# Altium footprint library ICs.PcbLib: 72 footprints (part 4 of 5)
Each footprint in its own frame and in the unit in brackets; x right, y up, seen from the top. Pads: shape width x height; smd on the part's side, far side on the other; paste and mask are expansions set on the pad; w line width, h text height; cw(c..) or ccw(c..) is an arc to the next point about the centre after c.
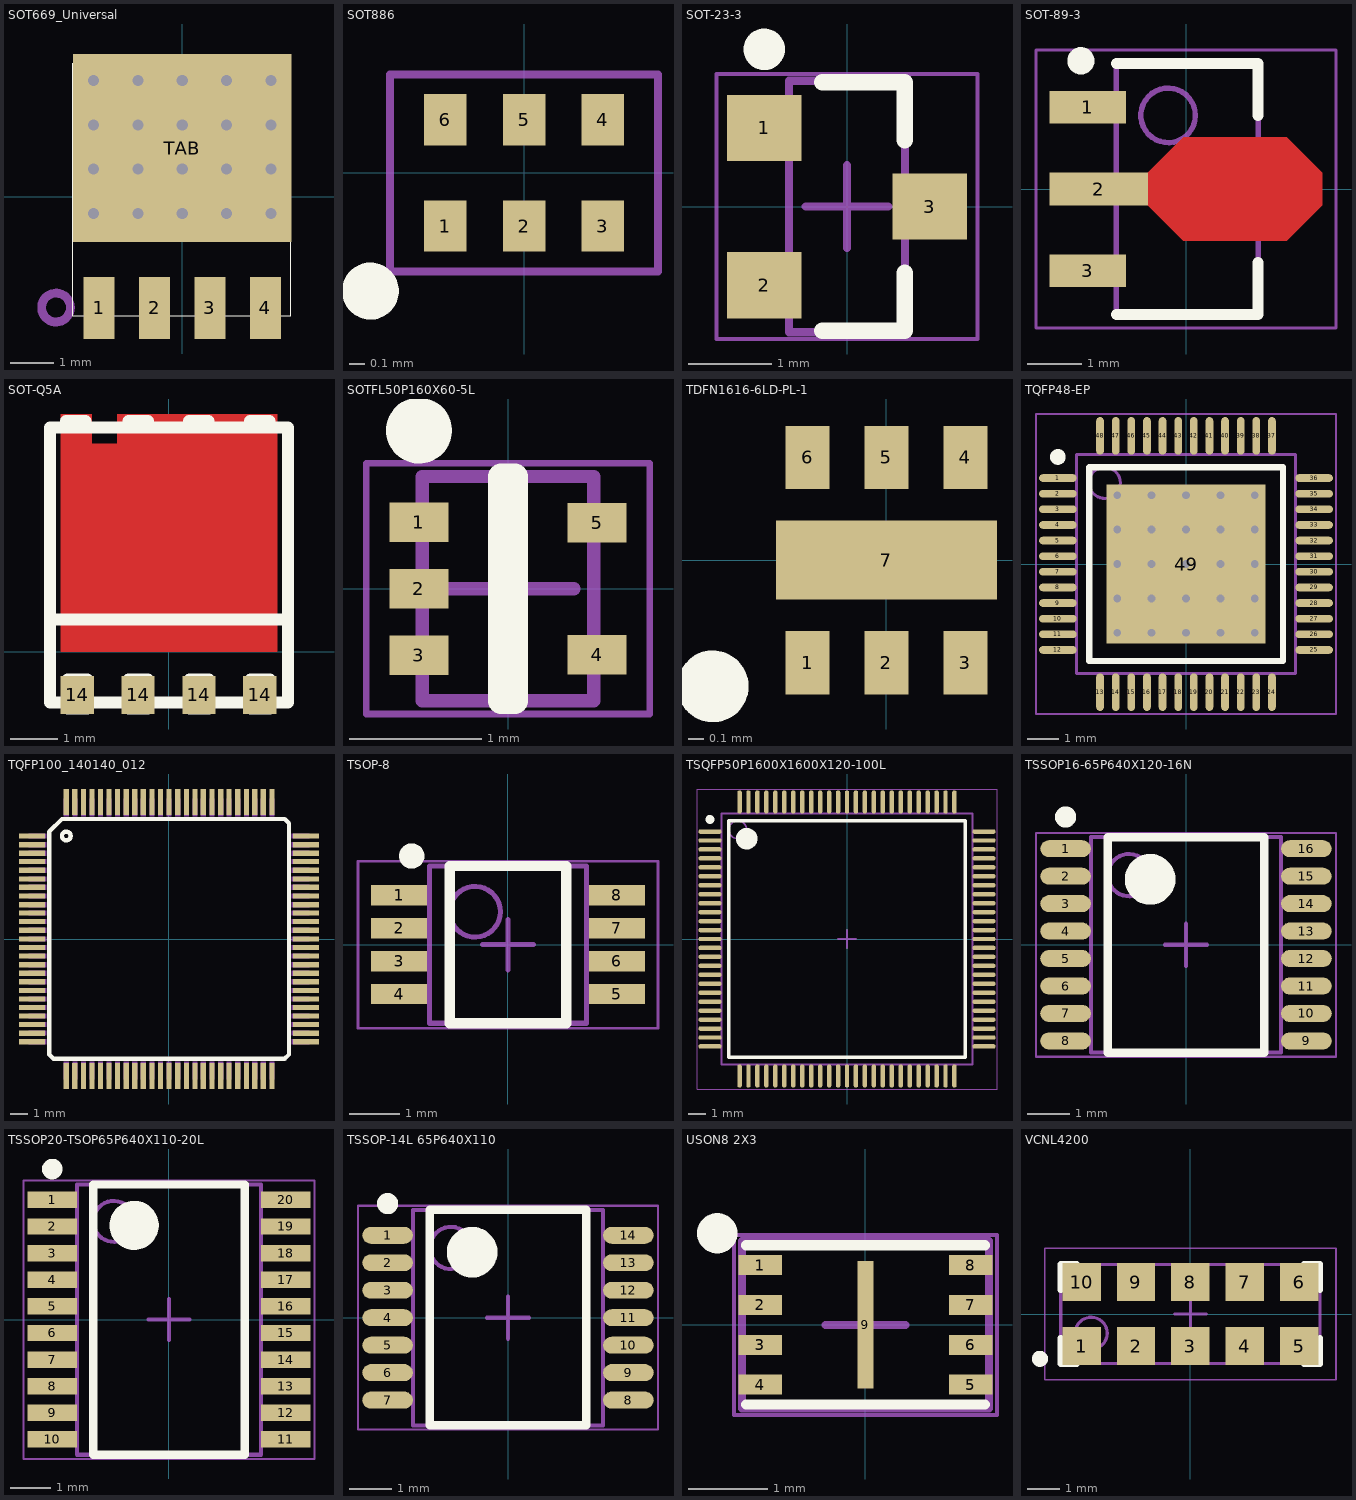
[diagram p3: the footprints below, top view; thin cyan lines are the x and y axes]

## SOT669_Universal [mil]
pads (5):
  rect 28x56 smd: 1(-75,-100.41) 2(-25,-100.41) 3(25,-100.41) 4(75,-100.41)
  rect 197x170 smd paste-102.36 mask-236.22: TAB(0,43.98)
via 0,64.98 diameter 22 hole 10
via 0,104.98 diameter 22 hole 10
via 0,24.98 diameter 22 hole 10
via 0,-15.02 diameter 22 hole 10
via -40,-15.02 diameter 22 hole 10
via -80,-15.02 diameter 22 hole 10
via -80,24.98 diameter 22 hole 10
via -40,24.98 diameter 22 hole 10
via -40,64.98 diameter 22 hole 10
via -80,64.98 diameter 22 hole 10
via -80,104.98 diameter 22 hole 10
via -40,104.98 diameter 22 hole 10
via 40,104.98 diameter 22 hole 10
via 80,104.98 diameter 22 hole 10
via 80,64.98 diameter 22 hole 10
via 40,64.98 diameter 22 hole 10
via 40,24.98 diameter 22 hole 10
via 80,24.98 diameter 22 hole 10
via 80,-15.02 diameter 22 hole 10
via 40,-15.02 diameter 22 hole 10
Top Overlay:
  lines w0.39: -98.82,-18.43 -78.74,-18.43 -78.74,101.83 -85.43,101.83 -85.43,120.55 -69.22,120.55 -69.22,101.83 -34.25,101.83 -34.25,120.55 -18.04,120.55 -18.04,101.83 16.14,101.83 16.14,120.55 32.36,120.55 32.36,101.83 66.54,101.83 66.54,120.55 82.75,120.55 82.75,101.65 78.74,101.65 78.74,-38.5 ; -98.74,-38.32 98.11,-38.32 ; -85.56,120.73 -85.56,125.85 -69.41,125.85 -69.41,120.73 ; -33.98,120.73 -33.98,125.85 -17.84,125.85 -17.84,120.73 ; 16.41,120.73 16.41,125.85 32.56,125.85 32.56,120.73 ; 66.81,120.73 66.81,125.85 82.95,125.85 82.95,120.73 ; -98.74,-107.22 -98.74,120.73 98.11,120.73 98.11,-107.22 -98.74,-107.22 ; -84.18,-111.94 -68.04,-111.94 -68.04,-87.93 -84.18,-87.93 -84.18,-111.94 ; -33.78,-111.94 -33.78,-87.93 -17.64,-87.93 -17.64,-111.94 -33.78,-111.94 ; 16.61,-111.94 16.61,-87.93 32.75,-87.93 32.75,-111.94 16.61,-111.94 ; 67,-111.94 67,-87.93 83.15,-87.93 83.15,-111.94 67,-111.94
Top Paste:
  region: 17.72,-30.24 -17.72,-30.24 -17.72,-6.61 17.72,-6.61
  region: -27.56,-30.24 -62.99,-30.24 -62.99,-6.61 -27.56,-6.61
  region: 62.99,-30.24 27.56,-30.24 27.56,-6.61 62.99,-6.61
  region: 17.72,0.28 -17.72,0.28 -17.72,23.9 17.72,23.9
  region: -27.56,0.28 -62.99,0.28 -62.99,23.9 -27.56,23.9
  region: 62.99,0.28 27.56,0.28 27.56,23.9 62.99,23.9
  region: 17.72,31.77 -17.72,31.77 -17.72,55.39 17.72,55.39
  region: -27.56,31.77 -62.99,31.77 -62.99,55.39 -27.56,55.39
  region: 62.99,31.77 27.56,31.77 27.56,55.39 62.99,55.39
  region: 62.99,62.28 27.56,62.28 27.56,85.91 62.99,85.91
  region: -27.56,62.28 -62.99,62.28 -62.99,85.91 -27.56,85.91
  region: 17.72,62.28 -17.72,62.28 -17.72,85.91 17.72,85.91
  region: 62.99,91.81 62.99,127.24 86.61,127.24 86.61,91.81
  region: 11.81,91.81 11.81,127.24 35.43,127.24 35.43,91.81
  region: -38.39,91.81 -38.39,127.24 -14.76,127.24 -14.76,91.81
  region: -89.57,91.81 -89.57,127.24 -65.94,127.24 -65.94,91.81
Top Solder:
  region: -82.68,-43.03 -82.68,90.83 -92.52,90.83 -92.52,131.18 92.52,131.18 92.52,90.83 82.68,90.83 82.68,-43.03
  region: -82.68,-31.22
Mechanical 8:
  circle w8: c-113.98,-100.02 r13
3D body: height 9.84, standoff 3.54, extent -78.74,-38.5 78.74,101.65
3D body: height 10, standoff 0, extent -78.74,-38.11 -78.74,-38.11
3D body: height 9.84, standoff 3.54, extent -85.36,101.83 -69.22,125.85
3D body: height 9.84, standoff 3.54, extent -34.18,101.83 -18.04,125.85
3D body: height 9.84, standoff 3.54, extent 16.22,101.83 32.36,125.85
3D body: height 9.84, standoff 3.54, extent 66.61,101.83 82.75,125.85
3D body: height 9.84, standoff 3.54, extent 67,-111.94 83.15,-87.93
3D body: height 9.84, standoff 3.54, extent 16.61,-111.94 32.75,-87.93
3D body: height 9.84, standoff 3.54, extent -33.78,-111.94 -17.64,-87.93
3D body: height 39.37, standoff 3.94, extent -99.14,-107.22 97.71,120.73
3D body: height 10, standoff 3.94, extent -62.52,-112.73 -62.52,-112.73
3D body: height 9.84, standoff 3.54, extent -84.18,-111.94 -68.04,-87.93

## SOT886 [mm]
pads (6):
  rect 0.27x0.325 smd paste-5: 1(-0.5,-0.337) 2(0,-0.337) 3(0.5,-0.337) 4(0.5,0.337) 5(0,0.337) 6(-0.5,0.337)
Top Overlay:
  circle w0.203: c-0.975,-0.75 r0.079
Top Paste:
  rectangle: -0.63,-0.49 -0.37,-0.185
  rectangle: -0.13,-0.49 0.13,-0.185
  rectangle: 0.37,-0.49 0.63,-0.185
  rectangle: 0.37,0.185 0.63,0.489
  rectangle: -0.13,0.185 0.13,0.49
  rectangle: -0.63,0.184 -0.37,0.489
Mechanical 15:
  lines w0.05: -0.85,-0.625 0.85,-0.625 0.85,0.625 -0.85,0.625 -0.85,-0.625
3D body: height 0.54, standoff 0.04, extent -0.75,-0.525 0.75,0.525

## SOT-23-3 [mm] "SOT23, 3-Leads, Body 2.92x2.37mm, Pitch 0.95mm, IPC High Density"
height 1.11
pads (3):
  rect 0.9x0.8 smd: 1(-1,0.95) 2(-1,-0.95) 3(1,0)
Top Overlay:
  circle w0.25: c-1,1.9 r0.125
  lines w0.2: -0.3,-1.5 0.7,-1.5 0.7,-0.8 ; -0.3,1.5 0.7,1.5 0.7,0.8
Mechanical 13:
  lines w0.1: -0.7,-1.52 -0.7,1.52 0.7,1.52 0.7,-1.52 -0.7,-1.52
Mechanical 15:
  lines w0.05: -1.575,-1.6 -1.575,1.6 1.575,1.6 1.575,-1.6 -1.575,-1.6
  lines w0.1: -0.5,0 0.5,0 ; 0,-0.5 0,0.5
3D body "SOT-23-3.step": height 1.11, standoff 0, extent -1.32,-1.52 1.32,1.52

## SOT-89-3 [mm]
height 1.6
pads (3):
  rect 1.4x0.6 smd: 1(-1.8,1.5) 3(-1.8,-1.5)
  rect 1.8x0.6 smd: 2(-1.6,0)
Top Layer:
  region: -0.705,0.295 -0.05,0.95 1.85,0.95 2.5,0.3 2.5,-0.3 1.85,-0.95 -0.05,-0.95 -0.705,-0.295
Top Overlay:
  circle w0.25: c-1.927,2.35 r0.125
  lines w0.2: -1.278,-2.3 1.322,-2.3 1.322,-1.35 ; -1.278,2.3 1.322,2.3 1.322,1.35
Top Paste:
  region: -0.406,0.533 -0.051,0.889 1.854,0.889 2.438,0.305 2.438,-0.305 1.854,-0.889 -0.051,-0.889 -0.406,-0.533
Mechanical 13:
  circle w0.1: c-0.327,1.35 r0.5
  lines w0.1: -1.278,-2.3 1.322,-2.3 1.322,2.3 -1.278,2.3 -1.278,-2.3
Mechanical 15:
  lines w0.05: -2.75,-2.55 2.75,-2.55 2.75,2.55 -2.75,2.55 -2.75,-2.55
  lines w0.1: -0.477,0 0.523,0 ; 0.022,-0.5 0.022,0.5
3D body "SOT-89-3.step": height 1.6, standoff 0, extent -2.2,-2.3 1.85,2.3

## SOT-Q5A [mm]
pads (4):
  rect 0.7x0.8 smd: 14(-1.92,-0.91) 14(-0.64,-0.91) 14(0.64,-0.91) 14(1.92,-0.91)
Top Layer:
  region: -2.27,0 -2.27,5 -1.62,5 -1.62,4.37 -1.08,4.37 -1.08,5 2.29,5 2.29,0
Top Overlay:
  lines w0.254: -2.49,0.68 2.51,0.68 ; -2.155,4.72 -2.155,4.85 -1.745,4.85 -1.745,4.72 ; -0.845,4.72 -0.845,4.85 -0.435,4.85 -0.435,4.72 ; 0.435,4.72 0.435,4.85 0.845,4.85 0.845,4.72 ; 1.715,4.72 1.715,4.85 2.125,4.85 2.125,4.72 ; -2.49,-1.07 2.51,-1.07 2.51,4.72 -2.49,4.72 -2.49,-1.07 ; -2.12,-1.19 -2.12,-0.58 -1.71,-0.58 -1.71,-1.19 -2.12,-1.19 ; -0.84,-1.19 -0.43,-1.19 -0.43,-0.58 -0.84,-0.58 -0.84,-1.19 ; 0.44,-1.19 0.85,-1.19 0.85,-0.58 0.44,-0.58 0.44,-1.19 ; 1.72,-1.19 2.13,-1.19 2.13,-0.58 1.72,-0.58 1.72,-1.19

## SOTFL50P160X60-5L [mm] "SOTFL, 5-Leads, Body 1.60x1.60mm, Pitch 0.50mm, IPC High Density"
height 0.6
pads (5):
  rect 0.45x0.3 smd: 1(-0.675,0.503) 2(-0.675,0) 3(-0.675,-0.503) 4(0.675,-0.5) 5(0.675,0.5)
Top Overlay:
  circle w0.25: c-0.675,1.2 r0.125
  lines w0.2: -0.05,-0.85 0.05,-0.85 0.05,0.85 -0.05,0.85 -0.05,-0.85
Mechanical 13:
  lines w0.1: -0.65,-0.85 -0.65,0.85 0.65,0.85 0.65,-0.85 -0.65,-0.85
Mechanical 15:
  lines w0.05: -1.075,-0.95 -1.075,0.95 1.075,0.95 1.075,-0.95 -1.075,-0.95
  lines w0.1: -0.5,0 0.5,0 ; 0,-0.5 0,0.5
3D body "SOTFL50P160X60-5L.step": height 0.6, standoff 0, extent -0.8,-0.848 0.8,0.848

## TDFN1616-6LD-PL-1 [mm] "1.6mmx1.6mm"
pads (7):
  rect 0.28x0.4 smd mask+0.13: 1(-0.5,-0.65) 2(0,-0.65) 3(0.5,-0.65) 4(0.5,0.65) 5(0,0.65) 6(-0.5,0.65)
  rect 1.4x0.5 smd paste-1 mask+0.07: 7(0,0)
Top Overlay:
  circle w0.254: c-1.1,-0.8 r0.1
Top Paste:
  region: 0.65,0.15 0.051,0.15 0.051,-0.15 0.65,-0.15
  rectangle: -0.65,-0.15 -0.051,0.15
3D body: height 0.55, standoff 0.05, extent -0.799,-0.799 0.799,0.799

## TQFP48-EP [mm] "TSQFP, 48-Leads, Body 7.00x7.00mm, Pitch 0.50mm, Thermal Pad 5.10x5.10mm, IPC High Density"
height 1.2
pads (49):
  oval 1.2x0.25 smd: 1(-4.1,2.75) 2(-4.1,2.25) 3(-4.1,1.75) 4(-4.1,1.25) 5(-4.1,0.75) 6(-4.1,0.25) 7(-4.1,-0.25) 8(-4.1,-0.75) 9(-4.1,-1.25) 10(-4.1,-1.75) 11(-4.1,-2.25) 12(-4.1,-2.75) 25(4.1,-2.75) 26(4.1,-2.25) 27(4.1,-1.75) 28(4.1,-1.25) 29(4.1,-0.75) 30(4.1,-0.25) 31(4.1,0.25) 32(4.1,0.75) 33(4.1,1.25) 34(4.1,1.75) 35(4.1,2.25) 36(4.1,2.75)
  oval 0.25x1.2 smd: 13(-2.75,-4.1) 14(-2.25,-4.1) 15(-1.75,-4.1) 16(-1.25,-4.1) 17(-0.75,-4.1) 18(-0.25,-4.1) 19(0.25,-4.1) 20(0.75,-4.1) 21(1.25,-4.1) 22(1.75,-4.1) 23(2.25,-4.1) 24(2.75,-4.1) 37(2.75,4.1) 38(2.25,4.1) 39(1.75,4.1) 40(1.25,4.1) 41(0.75,4.1) 42(0.25,4.1) 43(-0.25,4.1) 44(-0.75,4.1) 45(-1.25,4.1) 46(-1.75,4.1) 47(-2.25,4.1) 48(-2.75,4.1)
  rect 5.1x5.1 smd: 49(0,0)
via -2.2,2.2 diameter 0.559 hole 0.254
via -1.1,2.2 diameter 0.559 hole 0.254
via 0,2.2 diameter 0.559 hole 0.254
via 1.1,2.2 diameter 0.559 hole 0.254
via 2.2,2.2 diameter 0.559 hole 0.254
via -2.2,1.1 diameter 0.559 hole 0.254
via -1.1,1.1 diameter 0.559 hole 0.254
via 0,1.1 diameter 0.559 hole 0.254
via 1.1,1.1 diameter 0.559 hole 0.254
via 2.2,1.1 diameter 0.559 hole 0.254
via -2.2,0 diameter 0.559 hole 0.254
via -1.1,0 diameter 0.559 hole 0.254
via 0,0 diameter 0.559 hole 0.254
via 1.1,0 diameter 0.559 hole 0.254
via 2.2,0 diameter 0.559 hole 0.254
via -2.2,-1.1 diameter 0.559 hole 0.254
via -1.1,-1.1 diameter 0.559 hole 0.254
via 0,-1.1 diameter 0.559 hole 0.254
via 1.1,-1.1 diameter 0.559 hole 0.254
via 2.2,-1.1 diameter 0.559 hole 0.254
via -2.2,-2.2 diameter 0.559 hole 0.254
via -1.1,-2.2 diameter 0.559 hole 0.254
via 0,-2.2 diameter 0.559 hole 0.254
via 1.1,-2.2 diameter 0.559 hole 0.254
via 2.2,-2.2 diameter 0.559 hole 0.254
Top Overlay:
  circle w0.25: c-4.1,3.425 r0.125
  lines w0.2: -3.1,-3.1 -3.1,3.1 3.1,3.1 3.1,-3.1 -3.1,-3.1
Mechanical 13:
  circle w0.1: c-2.6,2.6 r0.5
  lines w0.1: -3.5,-3.5 -3.5,3.5 3.5,3.5 3.5,-3.5 -3.5,-3.5
Mechanical 15:
  lines w0.05: -4.8,-4.8 -4.8,4.8 4.8,4.8 4.8,-4.8 -4.8,-4.8
  lines w0.1: -0.5,0 0.5,0 ; 0,-0.5 0,0.5
3D body: height 1.2, standoff 0.15, extent -3.5,-3.5 3.5,3.5

## TQFP100_140140_012 [mil]
pads (100):
  rect 60x12 smd mask+4: 1(-314.96,237) 2(-314.96,217) 3(-314.96,197) 4(-314.96,178) 5(-314.96,158) 6(-314.96,138) 7(-314.96,119) 8(-314.96,99) 9(-314.96,79) 10(-314.96,60) 11(-314.96,40) 12(-314.96,20) 13(-314.96,0) 14(-314.96,-19.68) 15(-314.96,-39.37) 16(-314.96,-59.06) 17(-314.96,-78.74) 18(-314.96,-98.43) 19(-314.96,-118.11) 20(-314.96,-137.8) 21(-314.96,-157.48) 22(-314.96,-177.17) 23(-314.96,-196.85) 24(-314.96,-216.54) 25(-314.96,-236.22) 51(315,-236.22) 52(315,-216.54) 53(315,-196.85) 54(315,-177.17) 55(315,-157.48) 56(315,-137.8) 57(315,-118.11) 58(315,-98.43) 59(315,-78.74) 60(315,-59.06) 61(315,-39.37) 62(315,-19.68) 63(315,0) 64(315,20) 65(315,40) 66(315,60) 67(315,79) 68(315,99) 69(315,119) 70(315,138) 71(315,158) 72(315,178) 73(315,197) 74(315,217) 75(315,237)
  rect 12x60 smd mask+4: 26(-236.22,-314.96) 27(-216.54,-314.96) 28(-196.85,-314.96) 29(-177.17,-314.96) 30(-157.48,-314.96) 31(-137.8,-314.96) 32(-118.11,-314.96) 33(-98.43,-314.96) 34(-78.74,-314.96) 35(-59.06,-314.96) 36(-39.37,-314.96) 37(-19.69,-314.96) 38(0,-314.96) 39(20,-314.96) 40(40,-314.96) 41(60,-314.96) 42(79,-314.96) 43(99,-314.96) 44(119,-314.96) 45(138,-314.96) 46(158,-314.96) 47(178,-314.96) 48(197,-314.96) 49(217,-314.96) 50(237,-314.96) 76(237,315) 77(217,315) 78(197,315) 79(178,315) 80(158,315) 81(138,315) 82(119,315) 83(99,315) 84(79,315) 85(60,315) 86(40,315) 87(20,315) 88(0,315) 89(-19.69,315) 90(-39.37,315) 91(-59.06,315) 92(-78.74,315) 93(-98.43,315) 94(-118.11,315) 95(-137.8,315) 96(-157.48,315) 97(-177.17,315) 98(-196.85,315) 99(-216.54,315) 100(-236.22,315)
Top Overlay:
  circle w10: c-236.22,237 r10
  lines w10: -275.59,-265.75 -275.59,247 -246.06,276 266,276 276,266 276,-265.75 266,-275.59 -265.75,-275.59 -275.59,-265.75
Mechanical 8:
  rectangle: -242.13,282 -230.31,323
  rectangle: -222.44,282 -210.63,323
  rectangle: -202.76,282 -190.94,323
  rectangle: -183.07,282.02 -171.26,323.02
  rectangle: -163.39,282 -151.57,323
  rectangle: -143.68,282 -131.87,323
  rectangle: -124.02,282 -112.2,323
  rectangle: -104.33,282.02 -92.52,323.02
  rectangle: -84.65,282 -72.83,323
  rectangle: -64.96,282 -53.15,323
  rectangle: -45.28,282 -33.46,323
  rectangle: -25.57,282 -13.76,323
  rectangle: -5.89,282 6.02,323
  rectangle: 14,282 26,323
  rectangle: 34,282 46,323
  rectangle: 54,282 65,323
  rectangle: 73,282 85,323
  rectangle: 93,282 105,323
  rectangle: 113,282 125,323
  rectangle: 132,282 144,323
  rectangle: 152,282 164,323
  rectangle: 172,282 184,323
  rectangle: 191,282 203,323
  rectangle: 211,282 223,323
  rectangle: 231,282 243,323
  rectangle: 282,231 323,243
  rectangle: 282,211 323,223
  rectangle: 282,191 323,203
  rectangle: 282,172 323,184
  rectangle: 282,152 323,164
  rectangle: 282,132 323,144
  rectangle: 282,113 323,125
  rectangle: 282,93 323,105
  rectangle: 282,73 323,85
  rectangle: 282,54 323,65
  rectangle: 282,34 323,46
  rectangle: 282,14 323,26
  rectangle: 282.02,-5.91 323.02,6
  rectangle: 282.02,-25.59 323.02,-13.78
  rectangle: 282,-45.28 323,-33.46
  rectangle: 282,-64.96 323,-53.15
  rectangle: 282,-84.65 323,-72.83
  rectangle: 282,-104.35 323,-92.53
  rectangle: 282,-124.02 323,-112.2
  rectangle: 282.02,-143.7 323.02,-131.89
  rectangle: 282,-163.39 323,-151.57
  rectangle: 282,-183.09 323,-171.27
  rectangle: 282,-202.76 323,-190.94
  rectangle: 282,-222.44 323,-210.63
  rectangle: 282,-242.13 323,-230.31
  rectangle: 231,-322.85 243,-281.51
  rectangle: 211,-322.85 223,-281.51
  rectangle: 191,-322.85 203,-281.51
  rectangle: 172,-322.85 184,-281.51
  rectangle: 152,-322.85 164,-281.51
  rectangle: 132,-322.85 144,-281.51
  rectangle: 113,-322.85 125,-281.51
  rectangle: 93,-322.85 105,-281.51
  rectangle: 73,-322.85 85,-281.51
  rectangle: 54,-322.85 65,-281.51
  rectangle: 34,-322.85 46,-281.51
  rectangle: 14,-322.85 26,-281.51
  rectangle: -5.91,-322.83 6,-281.5
  rectangle: -25.59,-322.83 -13.78,-281.5
  rectangle: -45.3,-322.83 -33.48,-281.5
  rectangle: -64.96,-322.83 -53.15,-281.5
  rectangle: -84.65,-322.85 -72.83,-281.52
  rectangle: -104.33,-322.83 -92.52,-281.5
  rectangle: -124.04,-322.83 -112.22,-281.5
  rectangle: -143.7,-322.83 -131.89,-281.5
  rectangle: -163.39,-322.83 -151.57,-281.5
  rectangle: -183.07,-322.83 -171.26,-281.5
  rectangle: -202.76,-322.85 -190.94,-281.52
  rectangle: -222.44,-322.83 -210.63,-281.5
  rectangle: -242.15,-322.83 -230.33,-281.5
  rectangle: -322.85,-242.13 -281.52,-230.31
  rectangle: -322.83,-222.44 -281.5,-210.62
  rectangle: -322.83,-202.74 -281.5,-190.92
  rectangle: -322.83,-183.07 -281.5,-171.25
  rectangle: -322.83,-163.39 -281.5,-151.57
  rectangle: -322.83,-143.7 -281.5,-131.88
  rectangle: -322.85,-124.02 -281.51,-112.2
  rectangle: -322.83,-104.33 -281.5,-92.52
  rectangle: -322.83,-84.63 -281.5,-72.81
  rectangle: -322.83,-64.96 -281.5,-53.15
  rectangle: -322.85,-45.28 -281.51,-33.46
  rectangle: -322.83,-25.59 -281.5,-13.78
  rectangle: -322.83,-5.91 -281.5,6
  rectangle: -322.83,14.02 -281.5,26.02
  rectangle: -322.83,34.02 -281.5,46.02
  rectangle: -322.83,54.02 -281.5,65.02
  rectangle: -322.83,73.02 -281.5,85.02
  rectangle: -322.83,93.02 -281.5,105.02
  rectangle: -322.83,113.02 -281.5,125.02
  rectangle: -322.83,132.02 -281.5,144.02
  rectangle: -322.83,152.02 -281.5,164.02
  rectangle: -322.83,172.02 -281.5,184.02
  rectangle: -322.83,191.02 -281.5,203.02
  rectangle: -322.83,211.02 -281.5,223.02
  rectangle: -322.83,231.02 -281.5,243.02
3D body: height 47.24, standoff 0, extent -280.59,-280.59 281,281

## TSOP-8 [mm] "TSOP, 8-Leads, Manually Adjusted, Body 3.00x3.00mm, Pitch 0.65mm, IPC High Density"
height 1.1
pads (8):
  rect 1.1x0.4 smd: 1(-2.15,0.975) 2(-2.15,0.325) 3(-2.15,-0.325) 4(-2.15,-0.975) 5(2.15,-0.975) 6(2.15,-0.325) 7(2.15,0.325) 8(2.15,0.975)
Top Overlay:
  circle w0.25: c-1.9,1.75 r0.125
  lines w0.2: -1.15,-1.55 -1.15,1.55 1.15,1.55 1.15,-1.55 -1.15,-1.55
Mechanical 13:
  circle w0.1: c-0.65,0.65 r0.5
  lines w0.1: -1.55,-1.55 -1.55,1.55 1.55,1.55 1.55,-1.55 -1.55,-1.55
Mechanical 15:
  lines w0.05: -2.96,-1.65 -2.96,1.65 2.96,1.65 2.96,-1.65 -2.96,-1.65
  lines w0.1: -0.5,0 0.5,0 ; 0,-0.5 0,0.5
3D body "TSOP-8.step": height 1.1, standoff 0.01, extent -1.993,-1.55 1.993,1.55

## TSQFP50P1600X1600X120-100L [mm] "TSQFP, 100-Leads, Body 14.00x14.00mm, Pitch 0.50mm, IPC High Density"
height 1.2
pads (100):
  oval 1.3x0.25 smd: 1(-7.65,6) 2(-7.65,5.5) 3(-7.65,5) 4(-7.65,4.5) 5(-7.65,4) 6(-7.65,3.5) 7(-7.65,3) 8(-7.65,2.5) 9(-7.65,2) 10(-7.65,1.5) 11(-7.65,1) 12(-7.65,0.5) 13(-7.65,0) 14(-7.65,-0.5) 15(-7.65,-1) 16(-7.65,-1.5) 17(-7.65,-2) 18(-7.65,-2.5) 19(-7.65,-3) 20(-7.65,-3.5) 21(-7.65,-4) 22(-7.65,-4.5) 23(-7.65,-5) 24(-7.65,-5.5) 25(-7.65,-6) 51(7.65,-6) 52(7.65,-5.5) 53(7.65,-5) 54(7.65,-4.5) 55(7.65,-4) 56(7.65,-3.5) 57(7.65,-3) 58(7.65,-2.5) 59(7.65,-2) 60(7.65,-1.5) 61(7.65,-1) 62(7.65,-0.5) 63(7.65,0) 64(7.65,0.5) 65(7.65,1) 66(7.65,1.5) 67(7.65,2) 68(7.65,2.5) 69(7.65,3) 70(7.65,3.5) 71(7.65,4) 72(7.65,4.5) 73(7.65,5) 74(7.65,5.5) 75(7.65,6)
  oval 0.25x1.3 smd: 26(-6,-7.65) 27(-5.5,-7.65) 28(-5,-7.65) 29(-4.5,-7.65) 30(-4,-7.65) 31(-3.5,-7.65) 32(-3,-7.65) 33(-2.5,-7.65) 34(-2,-7.65) 35(-1.5,-7.65) 36(-1,-7.65) 37(-0.5,-7.65) 38(0,-7.65) 39(0.5,-7.65) 40(1,-7.65) 41(1.5,-7.65) 42(2,-7.65) 43(2.5,-7.65) 44(3,-7.65) 45(3.5,-7.65) 46(4,-7.65) 47(4.5,-7.65) 48(5,-7.65) 49(5.5,-7.65) 50(6,-7.65) 76(6,7.65) 77(5.5,7.65) 78(5,7.65) 79(4.5,7.65) 80(4,7.65) 81(3.5,7.65) 82(3,7.65) 83(2.5,7.65) 84(2,7.65) 85(1.5,7.65) 86(1,7.65) 87(0.5,7.65) 88(0,7.65) 89(-0.5,7.65) 90(-1,7.65) 91(-1.5,7.65) 92(-2,7.65) 93(-2.5,7.65) 94(-3,7.65) 95(-3.5,7.65) 96(-4,7.65) 97(-4.5,7.65) 98(-5,7.65) 99(-5.5,7.65) 100(-6,7.65)
Top Overlay:
  circle w0.25: c-7.65,6.675 r0.125
  circle w0.6: c-5.6,5.6 r0.3
  lines w0.2: -6.6,-6.6 -6.6,6.6 6.6,6.6 6.6,-6.6 -6.6,-6.6
Mechanical 13:
  circle w0.1: c-6.1,6.1 r0.5
  lines w0.1: -7,-7 -7,7 7,7 7,-7 -7,-7
Mechanical 15:
  lines w0.05: -8.375,-8.375 -8.375,8.375 8.375,8.375 8.375,-8.375 -8.375,-8.375
  lines w0.1: -0.5,0 0.5,0 ; 0,-0.5 0,0.5
3D body: height 1.2, standoff 0.05, extent -7,-7 7,7

## TSSOP16-65P640X120-16N [mm] "TSOP, 16-Leads, Body 5.00x4.39mm, Pitch 0.65mm, IPC High Density"
height 1.2
pads (16):
  oval 1.2x0.4 smd: 1(-2.85,2.275) 2(-2.85,1.625) 3(-2.85,0.975) 4(-2.85,0.325) 5(-2.85,-0.325) 6(-2.85,-0.975) 7(-2.85,-1.625) 8(-2.85,-2.275) 9(2.85,-2.275) 10(2.85,-1.625) 11(2.85,-0.975) 12(2.85,-0.325) 13(2.85,0.325) 14(2.85,0.975) 15(2.85,1.625) 16(2.85,2.275)
Top Overlay:
  circle w0.6: c-0.85,1.55 r0.3
  circle w0.25: c-2.85,3.025 r0.125
  lines w0.2: -1.85,-2.55 1.85,-2.55 1.85,2.55 -1.85,2.55 -1.85,-2.55
Assembly Top:
  circle w0.1: c-1.35,1.65 r0.5
  lines w0.1: -2.25,-2.55 2.25,-2.55 2.25,2.55 -2.25,2.55 -2.25,-2.55
Courtyard Top:
  lines w0.05: -3.55,-2.65 3.55,-2.65 3.55,2.65 -3.55,2.65 -3.55,-2.65
  lines w0.1: -0.5,0 0.5,0 ; 0,-0.5 0,0.5
3D body "TSSOP16-65P640X120-16N.step": height 1.2, standoff 0, extent -3.2,-2.55 3.2,2.55

## TSSOP20-TSOP65P640X110-20L [mm] "TSOP, 20-Leads, Body 6.50x4.40mm, Pitch 0.65mm, IPC High Density"
height 1.1
pads (20):
  rect 1.2x0.4 smd: 1(-2.85,2.925) 2(-2.85,2.275) 3(-2.85,1.625) 4(-2.85,0.975) 5(-2.85,0.325) 6(-2.85,-0.325) 7(-2.85,-0.975) 8(-2.85,-1.625) 9(-2.85,-2.275) 10(-2.85,-2.925) 11(2.85,-2.925) 12(2.85,-2.275) 13(2.85,-1.625) 14(2.85,-0.975) 15(2.85,-0.325) 16(2.85,0.325) 17(2.85,0.975) 18(2.85,1.625) 19(2.85,2.275) 20(2.85,2.925)
Top Overlay:
  circle w0.25: c-2.85,3.675 r0.125
  circle w0.6: c-0.85,2.3 r0.3
  lines w0.2: -1.85,-3.3 -1.85,3.3 1.85,3.3 1.85,-3.3 -1.85,-3.3
Assembly Top:
  circle w0.1: c-1.35,2.4 r0.5
  lines w0.1: -2.25,-3.3 -2.25,3.3 2.25,3.3 2.25,-3.3 -2.25,-3.3
Courtyard Top:
  lines w0.05: -3.55,-3.4 -3.55,3.4 3.55,3.4 3.55,-3.4 -3.55,-3.4
  lines w0.1: -0.5,0 0.5,0 ; 0,-0.5 0,0.5
3D body: height 1.1, standoff 0.05, extent -2.25,-3.3 2.25,3.3

## TSSOP-14L 65P640X110 [mm] "TSOP, 14-Leads, Body 5.00x4.40mm, Pitch 0.65mm, IPC High Density"
height 1.1
pads (14):
  oval 1.2x0.4 smd: 1(-2.85,1.95) 2(-2.85,1.3) 3(-2.85,0.65) 4(-2.85,0) 5(-2.85,-0.65) 6(-2.85,-1.3) 7(-2.85,-1.95) 8(2.85,-1.95) 9(2.85,-1.3) 10(2.85,-0.65) 11(2.85,0) 12(2.85,0.65) 13(2.85,1.3) 14(2.85,1.95)
Top Overlay:
  circle w0.6: c-0.85,1.55 r0.3
  circle w0.25: c-2.85,2.7 r0.125
  lines w0.2: -1.85,-2.55 1.85,-2.55 1.85,2.55 -1.85,2.55 -1.85,-2.55
Mechanical 13:
  circle w0.1: c-1.35,1.65 r0.5
  lines w0.1: -2.25,-2.55 2.25,-2.55 2.25,2.55 -2.25,2.55 -2.25,-2.55
Mechanical 15:
  lines w0.05: -3.55,-2.65 3.55,-2.65 3.55,2.65 -3.55,2.65 -3.55,-2.65
  lines w0.1: -0.5,0 0.5,0 ; 0,-0.5 0,0.5
3D body: height 1.1, standoff 0.05, extent -2.25,-2.55 2.25,2.55

## USON8 2X3 [mm]
height 0.6
pads (10):
  rect 0.55x0.25 smd paste-0.025 mask+0.051: 1(-1.32,0.75) 2(-1.32,0.25) 3(-1.32,-0.25) 4(-1.32,-0.75) 5(1.32,-0.75) 6(1.32,-0.25) 7(1.32,0.25) 8(1.32,0.75)
  rect 0.2x1.6 smd paste-0.025 mask+0.051: 9(0,0)
  round 0.508 on Top Overlay mask+0.051: ""(-1.86,1.15)
Top Overlay:
  lines w0.127: -1.5,-1 1.5,-1 ; -1.5,1 1.5,1
Mechanical 13:
  lines w0.1: -1.55,-1.05 -1.55,1.05 1.55,1.05 1.55,-1.05 -1.55,-1.05
Mechanical 15:
  lines w0.05: -1.65,-1.13 -1.65,1.13 1.65,1.13 1.65,-1.13 -1.65,-1.13
  lines w0.1: -0.5,0 0.5,0 ; 0,-0.5 0,0.5
3D body "USON8 2X3.step": height 0.6, standoff 0, extent -1.55,-1.051 1.55,1.051

## VCNL4200 [mm] "PQFN, 8-Leads, Body 8.00x3.00mm, Pitch 1.70mm/0.50mm, IPC Low Density"
height 1.9
pads (10):
  rect 1.2x1.2 smd: 1(-3.4,-1) 2(-1.7,-1) 3(0,-1) 4(1.7,-1) 5(3.4,-1) 6(3.4,1) 7(1.7,1) 8(0,1) 9(-1.7,1) 10(-3.4,1)
Top Overlay:
  circle w0.25: c-4.7,-1.4 r0.125
  lines w0.2: -4.05,-0.75 -4.05,-1.55 -3.55,-1.55 ; -4.05,0.75 -4.05,1.55 -3.55,1.55 ; 3.55,-1.55 4.05,-1.55 4.05,-0.75 ; 3.55,1.55 4.05,1.55 4.05,0.75
Assembly Top:
  circle w0.1: c-3.1,-0.6 r0.5
  lines w0.1: -4.05,-1.55 4.05,-1.55 4.05,1.55 -4.05,1.55 -4.05,-1.55
Courtyard Top:
  lines w0.05: -4.55,-2.05 4.55,-2.05 4.55,2.05 -4.55,2.05 -4.55,-2.05
  lines w0.1: -0.5,0 0.5,0 ; 0,-0.5 0,0.5
3D body "84588VCNL4200.stp": height 1.8, standoff 0, extent -4,-1.5 4,1.5